# EAGLE library part SN74HC125DR (library driver)
QUADRUPLE BUS BUFFER GATES WITH 3-STATE OUTPUTS
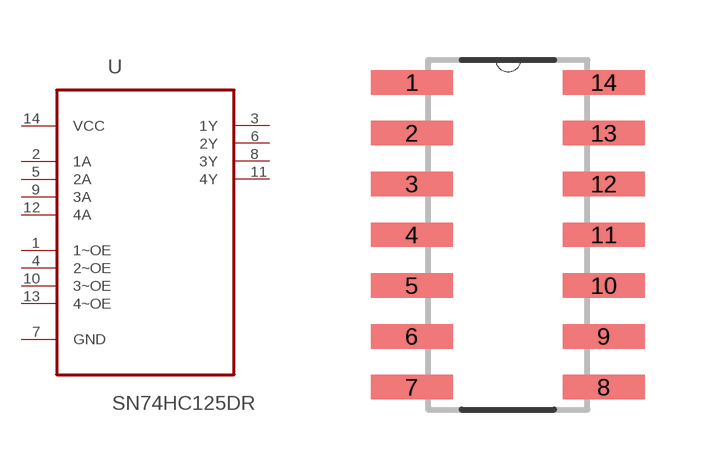
[diagram p0: symbol with the pads of SOIC127P600X175-14N; footprint SOIC127P600X175-14N]

Designator prefix U

## SN74HC125DR (Availability: Good; Description: Quadruple Bus Buffer Gates With 3-State Outputs 14-SOIC -40 to 85; MF: Texas Instruments; MP: SN74HC125DR; Package: SOIC-14 Texas Instruments; Price: 0.17 USD)  [SOIC127P600X175-14N]
1  1~OE  in
2  1A  in
3  1Y  out
4  2~OE  in
5  2A  in
6  2Y  out
7  GND  pas
8  3Y  out
9  3A  in
10  3~OE  in
11  4Y  out
12  4A  in
13  4~OE  in
14  VCC  pwr

## Footprint SOIC127P600X175-14N (pad centres in mm)
smd 2.057 x 0.61: 1 -4.801,7.62; 2 -4.801,6.35; 3 -4.801,5.08; 4 -4.801,3.81; 5 -4.801,2.54; 6 -4.801,1.27; 7 -4.801,0; 8 0,0; 9 0,1.27; 10 0,2.54; 11 0,3.81; 12 0,5.08; 13 0,6.35; 14 0,7.62